# Altium schematic symbol library CSD87352Q5D.SchLib: 1 symbol
Pins are listed as number, name and electrical type; pins without a type are passive.

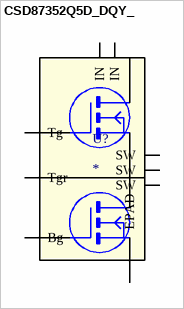
[diagram p0: symbol CSD87352Q5D_DQY_]

## CSD87352Q5D_DQY_
designator U?
Imported; Manufacturer: Texas Instruments; GENERIC_PART_NUMBER: CSD87352Q5D; INDUSTRY_STD_PKG_TYPE: SON; FAMILY_NAME: POWER MOSFET MODULES; PIN_COUNT: 8; PACKAGE_DESIGNATOR: DQY; Datasheet URL: http://www.ti.com/lit/gpn/CSD87352Q5D; RefDes: RefDes; Type: DEV; Value: Value
footprint CSD87352Q5D
pins: 1 IN, 2 IN, 3 Tg, 4 Tgr, 5 Bg, 6 SW, 7 SW, 8 SW, 9 EPAD (power)